# Altium integrated library header 3.IntLib: 1 symbol
Pins are listed as number, name and electrical type; pins without a type are passive.

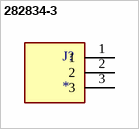
[diagram p0: symbol 282834-3]

## 282834-3
designator J?
Conn, Term Blk, PCB, Wire Receptacle, 3, 2.54mm, 30-16AWG, Green, 10A,150V, M1.6 | TE Connectivity 282834-3; SnapEDA_Link: https://www.snapeda.com/parts/282834-3/TE+Connectivity+AMP+Connectors/view-part/?ref=snap; Package: None; Value: *; MF: TE Connectivity; MP: 282834-3; EU_RoHS_Compliance: Compliant with Exemptions; Check_prices: https://www.snapeda.com/parts/282834-3/TE+Connectivity+AMP+Connectors/view-part/?ref=eda
footprint TE_282834-3
pins: 1, 2, 3